# EAGLE library part CNW136 (library optocoupler_ps)
HEWLETT PACKARD OPTO COUPLER
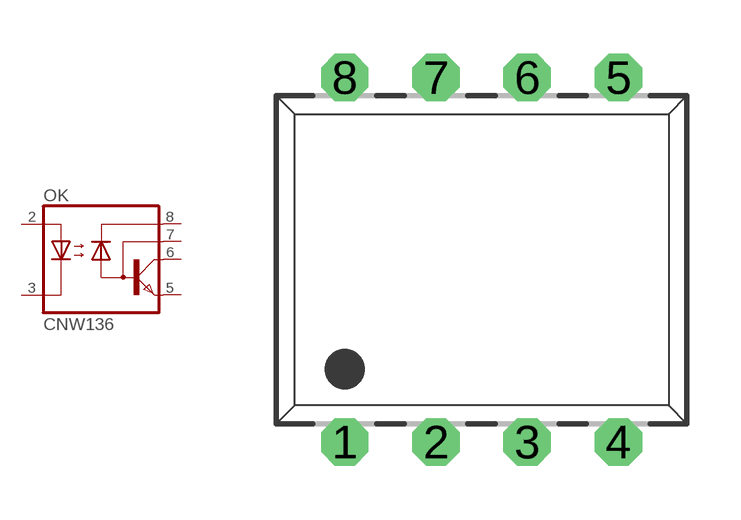
[diagram p27: symbol with the pads of DIL08HP4; footprint DIL08HP4]

Designator prefix OK

## CNW136 (MF: AGILENT TECHNOLOGIES; MPN: HCNW136-000E; OC_FARNELL: 9994742; OC_NEWARK: 88H7743)  [DIL08HP4]
2  A  pas
3  C  pas
5  GND  pas
6  VO  pas
7  VB  pas
8  VCC  pas

## Footprint DIL08HP4 (pad centres in mm)
Dual In Line
drill 0.813 octagon: 1 -3.81,-5.08; 2 -1.27,-5.08; 3 1.27,-5.08; 4 3.81,-5.08; 5 3.81,5.08; 6 1.27,5.08; 7 -1.27,5.08; 8 -3.81,5.08